# EAGLE library part AD5123 (library Parts for D-DAQ)
Digital POT 256 position, 4 channels
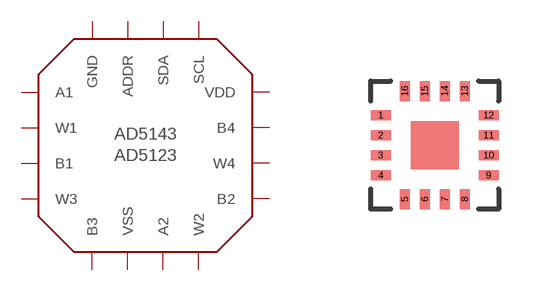
[diagram p10: symbol with the pads of LFCSP-16; footprint LFCSP-16]

Designator prefix -

## AD5123  [LFCSP-16]
1  A1  out
2  W1  out
3  B1  out
4  W3  out
5  B3  out
6  VSS  pwr
7  A2  out
8  W2  out
9  B2  in
10  W4  out
11  B4  out
12  VDD  pwr
13  SCL  in
14  SDA
15  ADDR  pas
16  GND  pwr

## Footprint LFCSP-16 (pad centres in mm)
smd 0.5 x 0.25: 1 -1.35,0.75; 2 -1.35,0.25; 3 -1.35,-0.25; 4 -1.35,-0.75; 9 1.35,-0.75; 10 1.35,-0.25; 11 1.35,0.25; 12 1.35,0.75
smd 0.25 x 0.5: 5 -0.75,-1.35; 6 -0.25,-1.35; 7 0.25,-1.35; 8 0.75,-1.35; 13 0.75,1.35; 14 0.25,1.35; 15 -0.25,1.35; 16 -0.75,1.35